# EAGLE library part FT24C32A (library ICs)
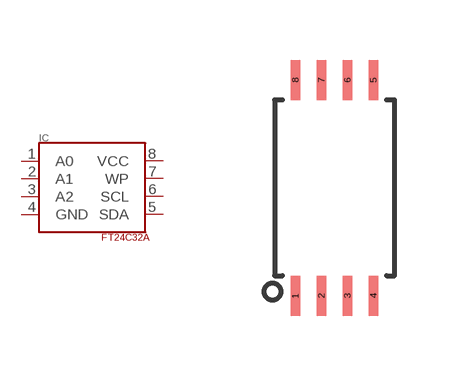
[diagram p9: symbol with the pads of TSSOP8; footprint TSSOP8]

Designator prefix IC

## FT24C32A  [TSSOP8]
1  A0
2  A1
3  A2
4  GND
5  SDA
6  SCL
7  WP
8  VCC

## Footprint TSSOP8 (pad centres in mm)
smd 0.245 x 1: 1 -0.975,-2.7; 2 -0.325,-2.7; 3 0.325,-2.7; 4 0.975,-2.7; 5 0.975,2.7; 6 0.325,2.7; 7 -0.325,2.7; 8 -0.975,2.7